# EAGLE library part RFM98W (library HopeRF-RFMxx)
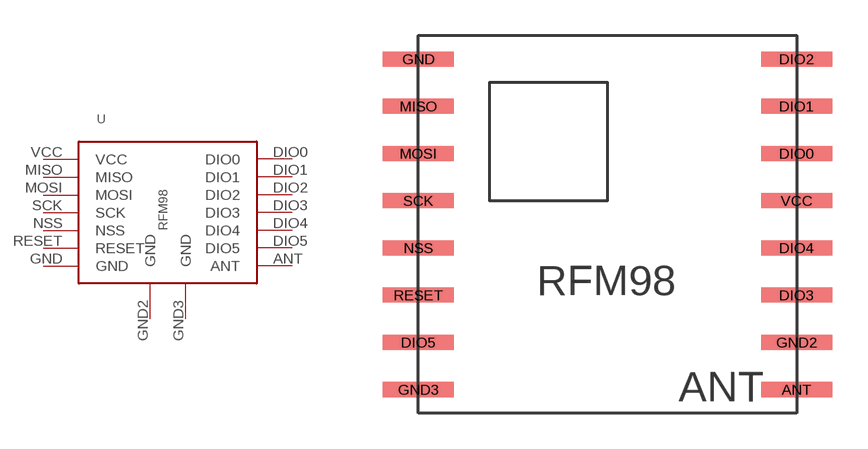
[diagram p0: symbol with the pads of RFM98_PADS; footprint RFM98_PADS]

Designator prefix -

## RFM98W  [RFM98_PADS]
ANT  ANT
DIO0  DIO0
DIO1  DIO1
DIO2  DIO2
DIO3  DIO3
DIO4  DIO4
DIO5  DIO5
GND  GND
GND2  GND
GND3  GND
MISO  MISO
MOSI  MOSI
NSS  NSS
RESET  RESET
SCK  SCK
VCC  VCC

## Footprint RFM98_PADS (pad centres in mm)
smd 3 x 0.635: ANT 8,-6; DIO0 8,4; DIO1 8,6; DIO2 8,8; DIO3 8,-2; DIO4 8,0; DIO5 -8,-4; GND -8,8; GND2 8,-4; GND3 -8,-6; MISO -8,6; MOSI -8,4; NSS -8,0; RESET -8,-2; SCK -8,2; VCC 8,2